# Altium schematic symbol library Other-MOC3063.SchLib: 1 symbol
Pins are listed as number, name and electrical type; pins without a type are passive.

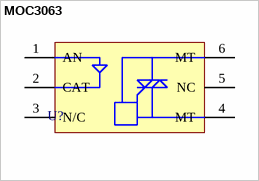
[diagram p0: symbol MOC3063]

## MOC3063
designator U?  (no BOM)
pins: 1 AN, 2 CAT, 3 N/C, 4 MT, 5 NC, 6 MT